# Altium schematic symbol library Schlib1.SchLib: 3 symbols
Pins are listed as number, name and electrical type; pins without a type are passive.

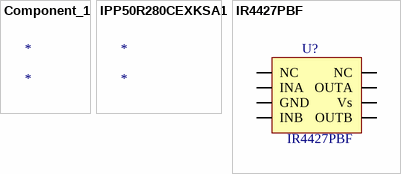
[diagram p0: symbols Component_1 to IR4427PBF]

## Component_1
designator *

## IPP50R280CEXKSA1
designator *
Trans MOSFET N-CH 550V 13A 3-Pin(3+Tab) TO-220 Tube; Manufacturer: Infineon; Manufacturer Part Number: IPP50R280CEXKSA1; Max Dual Supply Voltage: 500V; Supplier: Digikey; Supplier Part Number: IPP50R280CEXKSA1-ND; RoHS: Yes; Category: MOSFETs; Stock: 460; Pricing: 1=1,51, 50=1,2108, 100=0,9595, 500=0,81332, 1000=0,66254, 2000=0,6237, 5000=0,594, 10000=0,56659 (USD); Lead Free: 5697LeadFree; ComponentLink1URL: https://datasheet.ciiva.com/11171/ds-ipw50r280ce-2-1-11171054.pdf?src-supplier=Avnet; ComponentLink1Description: https://datasheet.ciiva.com/11171/ds-ipw50r280ce-2-1-11171054.pdf?src-supplier=Avnet; ComponentLink2URL: https://datasheet.ciiva.com/6376/infineon+-+product+brief+-+power+mosfets+-+500v+coolmos+-+ce-6376409.pdf?src-supplier=Digikey; ComponentLink2Description: https://datasheet.ciiva.com/6376/infineon+-+product+brief+-+power+mosfets+-+500v+coolmos+-+ce-6376409.pdf?src-supplier=Digikey

## IR4427PBF
designator U?
footprint DIP8
pins: 1 NC, 2 INA, 3 GND, 4 INB, 5 OUTB, 6 Vs, 7 OUTA, 8 NC